# EAGLE library part 74LVC02A (library 74XXX-little-logic)
IC GATE NOR 4CH 2-INP 14-TSSOP
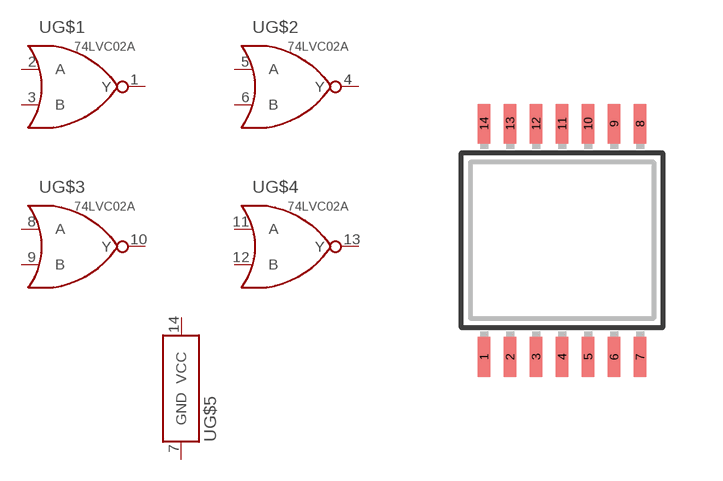
[diagram p13: symbol with the pads of TSSOP14; footprint TSSOP14]

Designator prefix U; gates G$1=NOR G$2=NOR G$3=NOR G$4=NOR G$5=PWR+/-

## 74LVC02A (DIGIKEY: 296-8434-1-ND; P1I: o)  [TSSOP14]
1  G$1:Y
2  G$1:A
3  G$1:B
4  G$2:Y
5  G$2:A
6  G$2:B
7  G$5:GND
8  G$3:A
9  G$3:B
10  G$3:Y
11  G$4:A
12  G$4:B
13  G$4:Y
14  G$5:VCC

## Footprint TSSOP14 (pad centres in mm)
Thin Shrink Small Outline Plastic 14
smd 0.305 x 0.991: 1 -1.95,-2.918; 2 -1.3,-2.918; 3 -0.65,-2.918; 4 0,-2.918; 5 0.65,-2.918; 6 1.3,-2.918; 7 1.95,-2.918; 8 1.95,2.918; 9 1.3,2.918; 10 0.65,2.918; 11 0,2.918; 12 -0.65,2.918; 13 -1.3,2.918; 14 -1.95,2.918